# Altium footprint library Würth-Elektronik.PcbLib: 79 footprints (part 2 of 5)
Each footprint in its own frame and in the unit in brackets; x right, y up, seen from the top. Pads: shape width x height; smd on the part's side, far side on the other; paste and mask are expansions set on the pad; w line width, h text height; cw(c..) or ccw(c..) is an arc to the next point about the centre after c.
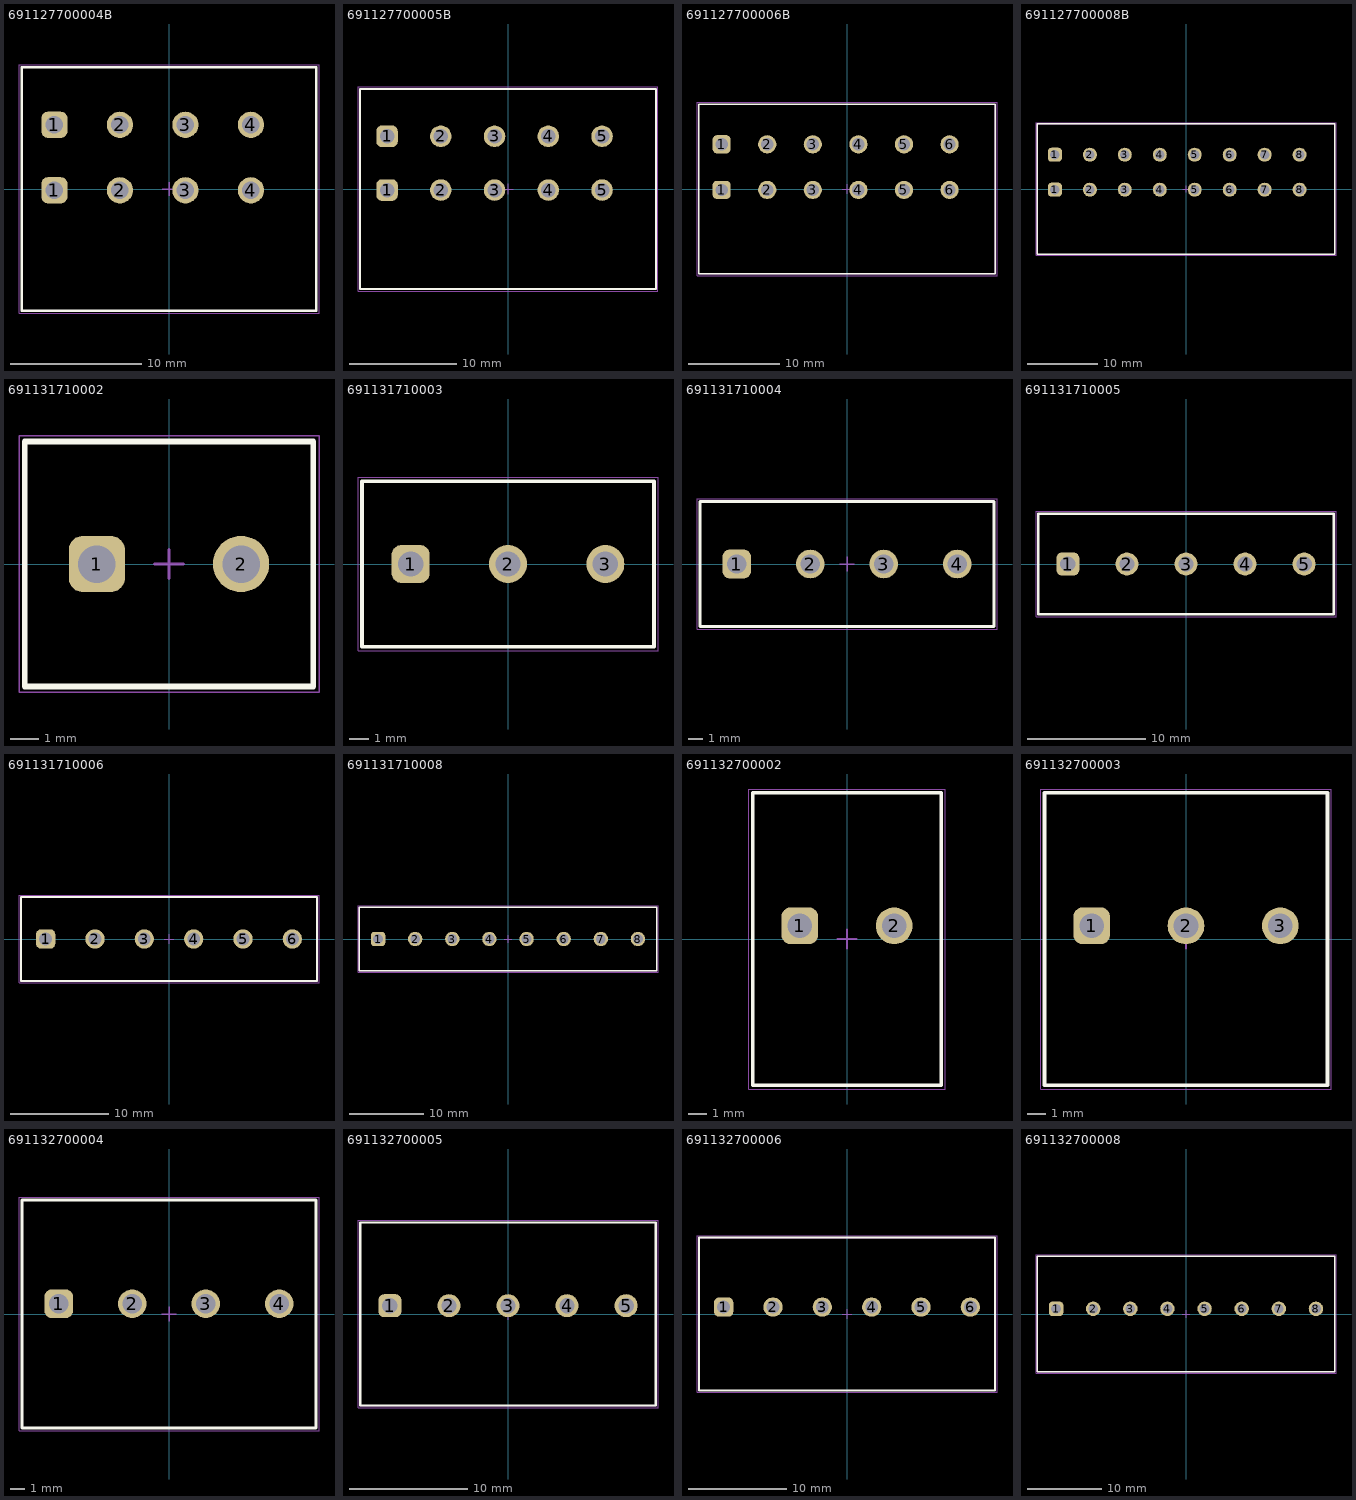
[diagram p1: the footprints below, top view; thin cyan lines are the x and y axes]

## 691127700004B [mm] "5,00 mm - PCB Vertical - 04p"
height 19.5
pads (8):
  rrect50% 2x2 hole 1.35: 1(-8.75,-0.1) 1(-8.75,4.9)
  round 2 hole 1.35: 2(-3.75,-0.1) 2(-3.75,4.9) 3(1.25,-0.1) 3(1.25,4.9) 4(6.25,-0.1) 4(6.25,4.9)
Top Overlay:
  lines w0.2: -11.25,-9.3 11.25,-9.3 11.25,9.3 -11.25,9.3 -11.25,-9.3
Top Courtyard:
  lines w0.05: -11.45,-9.5 -11.45,9.5 11.45,9.5 11.45,-9.5 -11.45,-9.5
Top 3D Body:
  lines w0.1: -11.25,-9.3 11.25,-9.3 11.25,9.3 -11.25,9.3 -11.25,-9.3
Top Assembly:
  lines w0.1: -11.25,-9.3 -11.25,9.3 11.25,9.3 11.25,-9.3 -11.25,-9.3
Top Designator:
  text ".Designator" at -3.647,-0.357 h1
Top Component Center:
  lines w0.1: -0.5,0 0.5,0 ; 0,-0.5 0,0.5
3D body "691127700004B.stp": height 19.6, standoff -3.4, extent -11.25,-9.3 11.25,9.3

## 691127700005B [mm] "5,00 mm - PCB Vertical - 05p"
height 19.5
pads (10):
  rrect50% 2x2 hole 1.35: 1(-11.25,-0.1) 1(-11.25,4.9)
  round 2 hole 1.35: 2(-6.25,-0.1) 2(-6.25,4.9) 3(-1.25,-0.1) 3(-1.25,4.9) 4(3.75,-0.1) 4(3.75,4.9) 5(8.75,-0.1) 5(8.75,4.9)
Top Overlay:
  lines w0.2: -13.75,-9.3 -13.75,9.3 13.75,9.3 13.75,-9.3 -13.75,-9.3
Top Courtyard:
  lines w0.05: -13.95,-9.5 13.95,-9.5 13.95,9.5 -13.95,9.5 -13.95,-9.5
Top 3D Body:
  lines w0.1: -13.75,-9.3 -13.75,9.3 13.75,9.3 13.75,-9.3 -13.75,-9.3
Top Assembly:
  lines w0.1: -13.75,-9.3 13.75,-9.3 13.75,9.3 -13.75,9.3 -13.75,-9.3
Top Designator:
  text ".Designator" at -3.647,-0.357 h1
Top Component Center:
  lines w0.1: -0.5,0 0.5,0 ; 0,-0.5 0,0.5
3D body "691127700005B.stp": height 19.6, standoff -3.4, extent -13.75,-9.3 13.75,9.3

## 691127700006B [mm] "5,00 mm - PCB Vertical - 06p"
height 19.5
pads (12):
  rrect50% 2x2 hole 1.35: 1(-13.75,-0.1) 1(-13.75,4.9)
  round 2 hole 1.35: 2(-8.75,-0.1) 2(-8.75,4.9) 3(-3.75,-0.1) 3(-3.75,4.9) 4(1.25,-0.1) 4(1.25,4.9) 5(6.25,-0.1) 5(6.25,4.9) 6(11.25,-0.1) 6(11.25,4.9)
Top Overlay:
  lines w0.2: -16.25,-9.3 -16.25,9.3 16.25,9.3 16.25,-9.3 -16.25,-9.3
Top Courtyard:
  lines w0.05: -16.45,-9.5 16.45,-9.5 16.45,9.5 -16.45,9.5 -16.45,-9.5
Top 3D Body:
  lines w0.1: -16.25,-9.3 -16.25,9.3 16.25,9.3 16.25,-9.3 -16.25,-9.3
Top Assembly:
  lines w0.1: -16.25,-9.3 16.25,-9.3 16.25,9.3 -16.25,9.3 -16.25,-9.3
Top Designator:
  text ".Designator" at -3.647,-0.357 h1
Top Component Center:
  lines w0.1: -0.5,0 0.5,0 ; 0,-0.5 0,0.5
3D body "691127700006B.stp": height 19.6, standoff -3.4, extent -16.25,-9.3 16.25,9.3

## 691127700008B [mm] "5,00 mm - PCB Vertical - 08p"
height 19.5
pads (16):
  rrect50% 2x2 hole 1.35: 1(-18.75,-0.1) 1(-18.75,4.9)
  round 2 hole 1.35: 2(-13.75,-0.1) 2(-13.75,4.9) 3(-8.75,-0.1) 3(-8.75,4.9) 4(-3.75,-0.1) 4(-3.75,4.9) 5(1.25,-0.1) 5(1.25,4.9) 6(6.25,-0.1) 6(6.25,4.9) 7(11.25,-0.1) 7(11.25,4.9) 8(16.25,-0.1) 8(16.25,4.9)
Top Overlay:
  lines w0.2: -21.25,-9.3 -21.25,9.3 21.25,9.3 21.25,-9.3 -21.25,-9.3
Top Courtyard:
  lines w0.05: -21.45,-9.5 21.45,-9.5 21.45,9.5 -21.45,9.5 -21.45,-9.5
Top 3D Body:
  lines w0.1: -21.25,-9.3 -21.25,9.3 21.25,9.3 21.25,-9.3 -21.25,-9.3
Top Assembly:
  lines w0.1: -21.25,-9.3 21.25,-9.3 21.25,9.3 -21.25,9.3 -21.25,-9.3
Top Designator:
  text ".Designator" at -3.647,-0.357 h1
Top Component Center:
  lines w0.1: -0.5,0 0.5,0 ; 0,-0.5 0,0.5
3D body "691127700008B.stp": height 19.6, standoff -3.4, extent -21.25,-9.3 21.25,9.3

## 691131710002 [mm] "SERIE 1317 - 5.00 MM - HORIZONTAL CABLE ENTRY WITH PRESSURE CLAMP - WR-TBL"
height 15.5
pads (2):
  rrect50% 1.95x1.95 hole 1.3: 1(-2.5,0)
  round 1.95 hole 1.3: 2(2.5,0)
Top Overlay:
  lines w0.2: -5,-4.25 5,-4.25 5,4.25 -5,4.25 -5,-4.25
Top Courtyard:
  lines w0.05: -5.2,-4.45 5.2,-4.45 5.2,4.45 -5.2,4.45 -5.2,-4.45
Top 3D Body:
  lines w0.1: -5,-4.25 5,-4.25 5,4.25 -5,4.25 -5,-4.25
Top Assembly:
  lines w0.1: -5,-4.25 -5,4.25 5,4.25 5,-4.25 -5,-4.25
Top Designator:
  text ".Designator" at -3.647,-0.357 h1
Top Component Center:
  lines w0.1: -0.5,0 0.5,0 ; 0,-0.5 0,0.5
3D body "691131710002.stp": height 15.5, standoff -4.45, extent -5,-4.25 5,4.25

## 691131710003 [mm] "SERIE 1317 - 5.00 MM - HORIZONTAL CABLE ENTRY WITH PRESSURE CLAMP - WR-TBL"
height 15.5
pads (3):
  rrect50% 1.95x1.95 hole 1.3: 1(-5,0)
  round 1.95 hole 1.3: 2(0,0) 3(5,0)
Top Overlay:
  lines w0.2: -7.5,-4.25 -7.5,4.25 7.5,4.25 7.5,-4.25 -7.5,-4.25
Top Courtyard:
  lines w0.05: -7.7,-4.45 -7.7,4.45 7.7,4.45 7.7,-4.45 -7.7,-4.45
Top 3D Body:
  lines w0.1: -7.5,-4.25 -7.5,4.25 7.5,4.25 7.5,-4.25 -7.5,-4.25
Top Assembly:
  lines w0.1: -7.5,-4.25 7.5,-4.25 7.5,4.25 -7.5,4.25 -7.5,-4.25
Top Designator:
  text ".Designator" at -3.647,-0.357 h1
Top Component Center:
  lines w0.1: -0.5,0 0.5,0 ; 0,-0.5 0,0.5
3D body "691131710003.stp": height 15.5, standoff -4.45, extent -7.5,-4.25 7.5,4.25

## 691131710004 [mm] "SERIE 1317 - 5.00 MM - HORIZONTAL CABLE ENTRY WITH PRESSURE CLAMP - WR-TBL"
height 15.5
pads (4):
  rrect50% 1.95x1.95 hole 1.3: 1(-7.5,0)
  round 1.95 hole 1.3: 2(-2.5,0) 3(2.5,0) 4(7.5,0)
Top Overlay:
  lines w0.2: -10,-4.25 10,-4.25 10,4.25 -10,4.25 -10,-4.25
Top Courtyard:
  lines w0.05: -10.2,-4.45 10.2,-4.45 10.2,4.45 -10.2,4.45 -10.2,-4.45
Top 3D Body:
  lines w0.1: -10,-4.25 10,-4.25 10,4.25 -10,4.25 -10,-4.25
Top Assembly:
  lines w0.1: -10,-4.25 -10,4.25 10,4.25 10,-4.25 -10,-4.25
Top Designator:
  text ".Designator" at -3.647,-0.357 h1
Top Component Center:
  lines w0.1: -0.5,0 0.5,0 ; 0,-0.5 0,0.5
3D body "691131710004.stp": height 15.5, standoff -4.45, extent -10,-4.25 10,4.25

## 691131710005 [mm] "SERIE 1317 - 5.00 MM - HORIZONTAL CABLE ENTRY WITH PRESSURE CLAMP - WR-TBL"
height 15.5
pads (5):
  rrect50% 1.95x1.95 hole 1.3: 1(-10,0)
  round 1.95 hole 1.3: 2(-5,0) 3(0,0) 4(5,0) 5(10,0)
Top Overlay:
  lines w0.2: -12.5,-4.25 -12.5,4.25 12.5,4.25 12.5,-4.25 -12.5,-4.25
Top Courtyard:
  lines w0.05: -12.7,-4.45 -12.7,4.45 12.7,4.45 12.7,-4.45 -12.7,-4.45
Top 3D Body:
  lines w0.1: -12.5,-4.25 -12.5,4.25 12.5,4.25 12.5,-4.25 -12.5,-4.25
Top Assembly:
  lines w0.1: -12.5,-4.25 12.5,-4.25 12.5,4.25 -12.5,4.25 -12.5,-4.25
Top Designator:
  text ".Designator" at -3.647,-0.357 h1
Top Component Center:
  lines w0.1: -0.5,0 0.5,0 ; 0,-0.5 0,0.5
3D body "691131710005.stp": height 15.5, standoff -4.45, extent -12.5,-4.25 12.5,4.25

## 691131710006 [mm] "SERIE 1317 - 5.00 MM - HORIZONTAL CABLE ENTRY WITH PRESSURE CLAMP - WR-TBL"
height 15.5
pads (6):
  rrect50% 1.95x1.95 hole 1.3: 1(-12.5,0)
  round 1.95 hole 1.3: 2(-7.5,0) 3(-2.5,0) 4(2.5,0) 5(7.5,0) 6(12.5,0)
Top Overlay:
  lines w0.2: -15,-4.25 -15,4.25 15,4.25 15,-4.25 -15,-4.25
Top Courtyard:
  lines w0.05: -15.2,-4.45 -15.2,4.45 15.2,4.45 15.2,-4.45 -15.2,-4.45
Top 3D Body:
  lines w0.1: -15,-4.25 -15,4.25 15,4.25 15,-4.25 -15,-4.25
Top Assembly:
  lines w0.1: -15,-4.25 15,-4.25 15,4.25 -15,4.25 -15,-4.25
Top Designator:
  text ".Designator" at -3.647,-0.357 h1
Top Component Center:
  lines w0.1: -0.5,0 0.5,0 ; 0,-0.5 0,0.5
3D body "691131710006.stp": height 15.5, standoff -4.45, extent -15,-4.25 15,4.25

## 691131710008 [mm] "SERIE 1317 - 5.00 MM - HORIZONTAL CABLE ENTRY WITH PRESSURE CLAMP - WR-TBL"
height 15.5
pads (8):
  rrect50% 1.95x1.95 hole 1.3: 1(-17.5,0)
  round 1.95 hole 1.3: 2(-12.5,0) 3(-7.5,0) 4(-2.5,0) 5(2.5,0) 6(7.5,0) 7(12.5,0) 8(17.5,0)
Top Overlay:
  lines w0.2: -20,-4.25 20,-4.25 20,4.25 -20,4.25 -20,-4.25
Top Courtyard:
  lines w0.05: -20.2,-4.45 20.2,-4.45 20.2,4.45 -20.2,4.45 -20.2,-4.45
Top 3D Body:
  lines w0.1: -20,-4.25 20,-4.25 20,4.25 -20,4.25 -20,-4.25
Top Assembly:
  lines w0.1: -20,-4.25 -20,4.25 20,4.25 20,-4.25 -20,-4.25
Top Designator:
  text ".Designator" at -3.647,-0.357 h1
Top Component Center:
  lines w0.1: -0.5,0 0.5,0 ; 0,-0.5 0,0.5
3D body "691131710008.stp": height 15.5, standoff -4.45, extent -20,-4.25 20,4.25

## 691132700002 [mm] "Vertical Entry with Pressure Clamp divisible, pitch 5mm, 02p"
height 10.5
pads (2):
  rrect50% 1.95x1.95 hole 1.3: 1(-2.5,0.7)
  round 1.95 hole 1.3: 2(2.5,0.7)
Top Overlay:
  lines w0.2: -5,-7.75 -5,7.75 5,7.75 5,-7.75 -5,-7.75
Top Courtyard:
  lines w0.05: -5.2,-7.95 5.2,-7.95 5.2,7.95 -5.2,7.95 -5.2,-7.95
Top 3D Body:
  lines w0.1: -5,-7.75 -5,7.75 5,7.75 5,-7.75 -5,-7.75
Top Assembly:
  lines w0.1: -5,-7.75 5,-7.75 5,7.75 -5,7.75 -5,-7.75
Top Designator:
  text ".Designator" at -3.647,-0.357 h1
Top Component Center:
  lines w0.1: -0.5,0 0.5,0 ; 0,-0.5 0,0.5
3D body "691132700002.stp": height 10.75, standoff -4.25, extent -5,-7.7 5,7.75

## 691132700003 [mm] "Vertical Entry with Pressure Clamp divisible, pitch 5mm, 03p"
height 10.5
pads (3):
  rrect50% 1.95x1.95 hole 1.3: 1(-5,0.7)
  round 1.95 hole 1.3: 2(0,0.7) 3(5,0.7)
Top Overlay:
  lines w0.2: -7.5,-7.75 -7.5,7.75 7.5,7.75 7.5,-7.75 -7.5,-7.75
Top Courtyard:
  lines w0.05: -7.7,-7.95 7.7,-7.95 7.7,7.95 -7.7,7.95 -7.7,-7.95
Top 3D Body:
  lines w0.1: -7.5,-7.75 -7.5,7.75 7.5,7.75 7.5,-7.75 -7.5,-7.75
Top Assembly:
  lines w0.1: -7.5,-7.75 7.5,-7.75 7.5,7.75 -7.5,7.75 -7.5,-7.75
Top Designator:
  text ".Designator" at -3.647,-0.357 h1
Top Component Center:
  lines w0.1: -0.5,0 0.5,0 ; 0,-0.5 0,0.5
3D body "691132700003.stp": height 10.75, standoff -4.25, extent -7.5,-7.75 7.5,7.7

## 691132700004 [mm] "Vertical Entry with Pressure Clamp divisible, pitch 5mm, 04p"
height 10.5
pads (4):
  rrect50% 1.95x1.95 hole 1.3: 1(-7.5,0.7)
  round 1.95 hole 1.3: 2(-2.5,0.7) 3(2.5,0.7) 4(7.5,0.7)
Top Overlay:
  lines w0.2: -10,-7.75 -10,7.75 10,7.75 10,-7.75 -10,-7.75
Top Courtyard:
  lines w0.05: -10.2,-7.95 10.2,-7.95 10.2,7.95 -10.2,7.95 -10.2,-7.95
Top 3D Body:
  lines w0.1: -10,-7.75 -10,7.75 10,7.75 10,-7.75 -10,-7.75
Top Assembly:
  lines w0.1: -10,-7.75 10,-7.75 10,7.75 -10,7.75 -10,-7.75
Top Designator:
  text ".Designator" at -3.647,-0.357 h1
Top Component Center:
  lines w0.1: -0.5,0 0.5,0 ; 0,-0.5 0,0.5
3D body "691132700004.stp": height 10.75, standoff -4.25, extent -10,-7.75 10,7.7

## 691132700005 [mm] "Vertical Entry with Pressure Clamp divisible, pitch 5mm, 05p"
height 10.5
pads (5):
  rrect50% 1.95x1.95 hole 1.3: 1(-10,0.7)
  round 1.95 hole 1.3: 2(-5,0.7) 3(0,0.7) 4(5,0.7) 5(10,0.7)
Top Overlay:
  lines w0.2: -12.5,-7.75 12.5,-7.75 12.5,7.75 -12.5,7.75 -12.5,-7.75
Top Courtyard:
  lines w0.05: -12.7,-7.95 -12.7,7.95 12.7,7.95 12.7,-7.95 -12.7,-7.95
Top 3D Body:
  lines w0.1: -12.5,-7.75 12.5,-7.75 12.5,7.75 -12.5,7.75 -12.5,-7.75
Top Assembly:
  lines w0.1: -12.5,-7.75 -12.5,7.75 12.5,7.75 12.5,-7.75 -12.5,-7.75
Top Designator:
  text ".Designator" at -3.647,-0.357 h1
Top Component Center:
  lines w0.1: -0.5,0 0.5,0 ; 0,-0.5 0,0.5
3D body "691132700005.stp": height 10.75, standoff -4.25, extent -12.5,-7.75 12.5,7.7

## 691132700006 [mm] "Vertical Entry with Pressure Clamp divisible, pitch 5mm, 06p"
height 10.5
pads (6):
  rrect50% 1.95x1.95 hole 1.3: 1(-12.5,0.7)
  round 1.95 hole 1.3: 2(-7.5,0.7) 3(-2.5,0.7) 4(2.5,0.7) 5(7.5,0.7) 6(12.5,0.7)
Top Overlay:
  lines w0.2: -15,-7.75 -15,7.75 15,7.75 15,-7.75 -15,-7.75
Top Courtyard:
  lines w0.05: -15.2,-7.95 15.2,-7.95 15.2,7.95 -15.2,7.95 -15.2,-7.95
Top 3D Body:
  lines w0.1: -15,-7.75 -15,7.75 15,7.75 15,-7.75 -15,-7.75
Top Assembly:
  lines w0.1: -15,-7.75 15,-7.75 15,7.75 -15,7.75 -15,-7.75
Top Designator:
  text ".Designator" at -3.647,-0.357 h1
Top Component Center:
  lines w0.1: -0.5,0 0.5,0 ; 0,-0.5 0,0.5
3D body "691132700006.stp": height 10.75, standoff -4.25, extent -15,-7.75 15,7.7

## 691132700008 [mm] "Vertical Entry with Pressure Clamp divisible, pitch 5mm, 08p"
height 10.5
pads (8):
  rrect50% 1.95x1.95 hole 1.3: 1(-17.5,0.7)
  round 1.95 hole 1.3: 2(-12.5,0.7) 3(-7.5,0.7) 4(-2.5,0.7) 5(2.5,0.7) 6(7.5,0.7) 7(12.5,0.7) 8(17.5,0.7)
Top Overlay:
  lines w0.2: -20,-7.75 20,-7.75 20,7.75 -20,7.75 -20,-7.75
Top Courtyard:
  lines w0.05: -20.2,-7.95 -20.2,7.95 20.2,7.95 20.2,-7.95 -20.2,-7.95
Top 3D Body:
  lines w0.1: -20,-7.75 20,-7.75 20,7.75 -20,7.75 -20,-7.75
Top Assembly:
  lines w0.1: -20,-7.75 -20,7.75 20,7.75 20,-7.75 -20,-7.75
Top Designator:
  text ".Designator" at -3.647,-0.357 h1
Top Component Center:
  lines w0.1: -0.5,0 0.5,0 ; 0,-0.5 0,0.5
3D body "691132700008.stp": height 10.75, standoff -4.25, extent -20,-7.75 20,7.7